# Altium schematic symbol library 74xxx1G14GW-SOT353-1.SchLib: 1 symbol
Pins are listed as number, name and electrical type; pins without a type are passive.

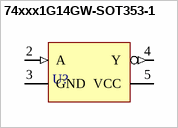
[diagram p0: symbol 74xxx1G14GW-SOT353-1]

## 74xxx1G14GW-SOT353-1
designator U?  (value not drawn)
pins: 2 A (in), 3 GND (power), 4 Y (out), 5 VCC (power)